# Altium footprint library 2174803-2.PcbLib: 1 footprints
Each footprint in its own frame and in the unit in brackets; x right, y up, seen from the top. Pads: shape width x height; smd on the part's side, far side on the other; paste and mask are expansions set on the pad; w line width, h text height; cw(c..) or ccw(c..) is an arc to the next point about the centre after c.
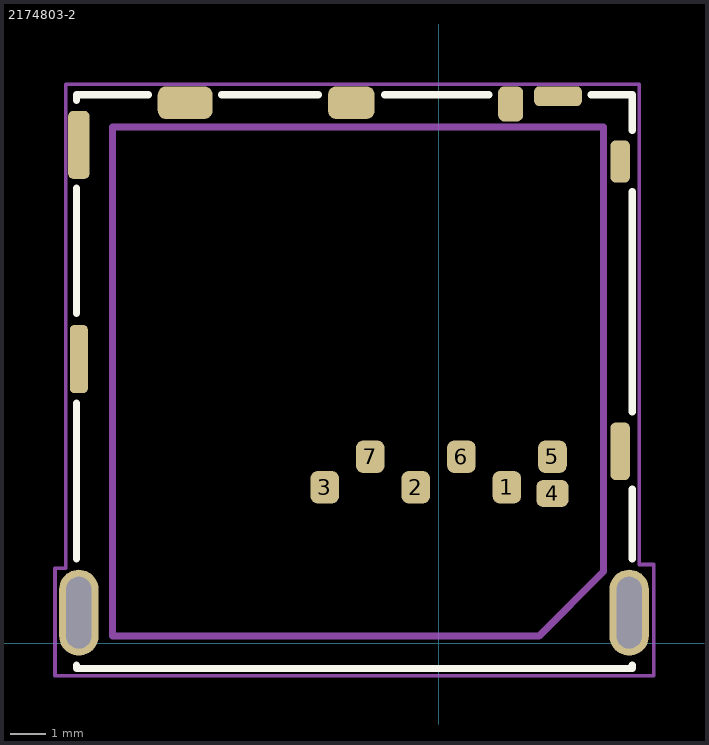
[diagram p0: the footprint, top view; thin cyan lines are the x and y axes]

## 2174803-2 [mm]
pads (17):
  rrect50% 0.8x0.9 smd mask+0: 1(1.905,4.355) 2(-0.635,4.355) 3(-3.175,4.355) 5(3.175,5.205) 6(0.635,5.205) 7(-1.905,5.205)
  rrect50% 0.9x0.75 smd mask+0: 4(3.175,4.18)
  oval 1.1x2.4 hole 0.7 slot 2 at 90 deg mask+0: ""(-10.035,0.855) ""(5.315,0.855)
  rrect50% 0.5x1.9 smd mask+0: ""(-10.035,7.93)
  rrect50% 0.6x1.9 smd mask+0: ""(-10.035,13.905)
  rrect50% 1.53x0.91 smd mask+0: ""(-7.07,15.08)
  rrect50% 1.3x0.91 smd mask+0: ""(-2.435,15.08)
  rrect50% 0.7x0.98 smd mask+0: ""(2.01,15.045)
  rrect50% 1.33x0.55 smd mask+0: ""(3.33,15.26)
  rrect50% 0.54x1.6 smd mask+0: ""(5.065,5.355)
  rrect50% 0.54x1.17 smd mask+0: ""(5.065,13.44)
Top Overlay:
  lines w0.2: -10.1,-0.6 -10.1,-0.7 -9.6,-0.7 5.4,-0.7 5.4,-0.6 ; -10.1,2.35 -10.1,6.7 ; -10.1,9.2 -10.1,12.7 ; -10.1,15.15 -10.1,15.3 -8.1,15.3 ; -6.05,15.3 -3.35,15.3 ; -1.5,15.3 1.4,15.3 ; 4.25,15.3 5.4,15.3 5.4,14.3 ; 5.4,2.35 5.4,4.3 ; 5.4,6.45 5.4,12.6
Mechanical 3:
  lines w0.2: -9.1,0.2 -9.1,14.4 2,14.4 4.6,14.4 4.6,2 2.8,0.2 -9.1,0.2
Mechanical 7 (Mech7):
  lines w0.1: -10.7,-0.9 -9.8,-0.9 6,-0.9 6,1 6,2.2 5.6,2.2 5.6,15.6 3.7,15.6 -10.4,15.6 -10.4,13.8 -10.4,2.1 -10.7,2.1 -10.7,0.2 -10.7,-0.9
Mechanical 9:
  text "'.Designator'" at -7.545,6.856 h1.02
3D body "c-2174803-2-p1-3d.stp": height 1.26, standoff -0.63, extent -10.1,-0.695 5.39,15.305
3D body: height 1.27, standoff 0, extent -10.7,-0.9 6,15.6